# EAGLE library part PIC12LF1822 (library components)
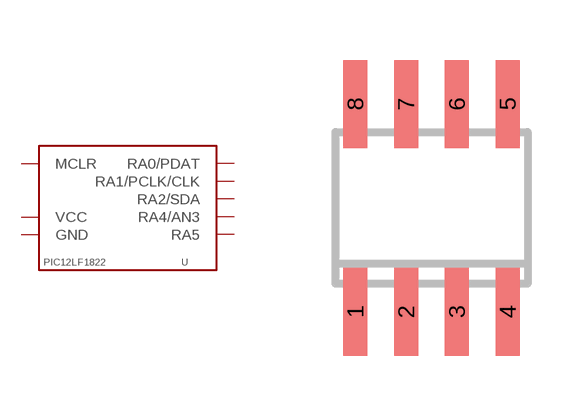
[diagram p14: symbol with the pads of SOIC8; footprint SOIC8]

Designator prefix -

## PIC12LF1822  [SOIC8]
1  VCC  pwr
2  RA5
3  RA4/AN3
4  MCLR
5  RA2/SDA
6  RA1/PCLK/CLK
7  RA0/PDAT
8  GND  pwr

## Footprint SOIC8 (pad centres in mm)
Small Outline IC
smd 0.6 x 2.2: 1 -1.905,-2.6; 2 -0.635,-2.6; 3 0.635,-2.6; 4 1.905,-2.6; 5 1.905,2.6; 6 0.635,2.6; 7 -0.635,2.6; 8 -1.905,2.6